# EAGLE library part LM2662 (library ICs)
Low cost. SO8. LM266x switched capacitor negative voltage rail generator.
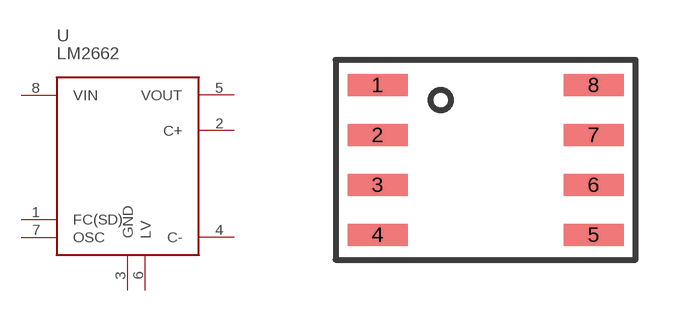
[diagram p40: symbol with the pads of SO8; footprint SO8]

Designator prefix U

## LM2662D (DIGIKEY: LM2662MX/NOPBCT-ND; HEIGHT: 1.5; PRICE_PER: 1.73; VALUE: LM2662)  [SO8]
1  FC(SD)
2  C+
3  GND
4  C-
5  VOUT
6  LV
7  OSC
8  VIN

## Footprint SO8 (pad centres in mm)
smd 1.5 x 0.55: 1 -2.7,1.875; 2 -2.7,0.625; 3 -2.7,-0.625; 4 -2.7,-1.875; 5 2.7,-1.875; 6 2.7,-0.625; 7 2.7,0.625; 8 2.7,1.875